# Altium footprint library My.PcbLib: 39 footprints (part 3 of 3)
Each footprint in its own frame and in the unit in brackets; x right, y up, seen from the top. Pads: shape width x height; smd on the part's side, far side on the other; paste and mask are expansions set on the pad; w line width, h text height; cw(c..) or ccw(c..) is an arc to the next point about the centre after c.
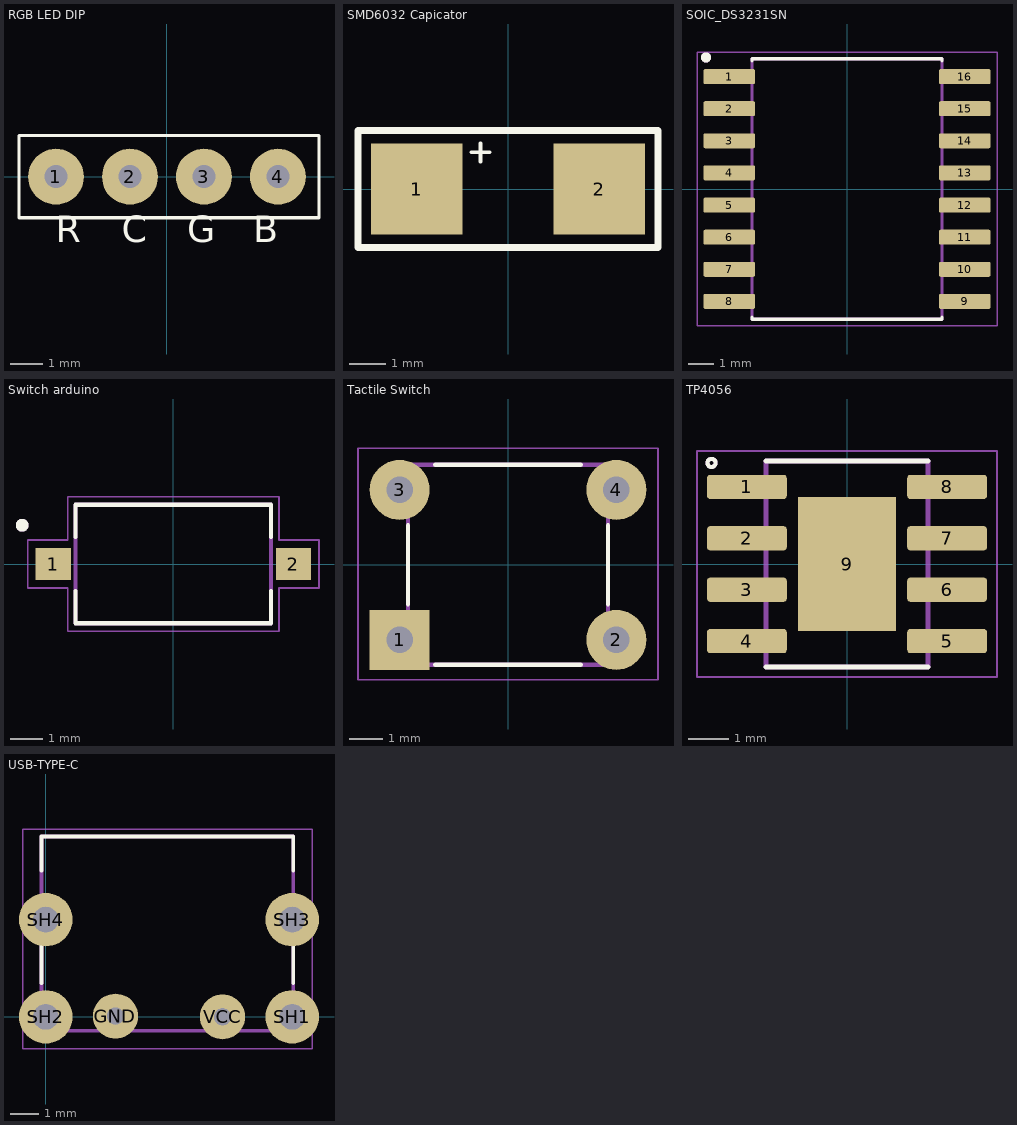
[diagram p2: the footprints below, top view; thin cyan lines are the x and y axes]

## RGB LED DIP [mm]
pads (4):
  round 1.7 hole 0.7: 1(-3.375,0) 2(-1.125,0) 3(1.125,0) 4(3.375,0)
Top Overlay:
  lines w0.1: -4.5,-1.25 -4.5,1.25 4.625,1.25 4.625,-1.25 -4.5,-1.25
  text "B" at 2.625,-2 h0.81
  text "G" at 0.625,-2 h0.81
  text "C" at -1.375,-2 h0.81
  text "R" at -3.375,-2 h0.81

## SMD6032 Capicator [mm]
pads (2):
  rect 2.5x2.5 smd: 1(-2.5,0) 2(2.5,0)
Top Overlay:
  lines w0.1: -1,1 -0.5,1 ; -0.75,0.75 -0.75,1.25
  lines w0.2: -4.1,-1.6 -4.1,1.6 4.1,1.6 4.1,-1.6 -4.1,-1.6

## SOIC_DS3231SN [mm]
height 2.65
pads (16):
  rrect25% 2.05x0.59 smd: 1(-4.655,4.445) 2(-4.655,3.175) 3(-4.655,1.905) 4(-4.655,0.635) 5(-4.655,-0.635) 6(-4.655,-1.905) 7(-4.655,-3.175) 8(-4.655,-4.445) 9(4.655,-4.445) 10(4.655,-3.175) 11(4.655,-1.905) 12(4.655,-0.635) 13(4.655,0.635) 14(4.655,1.905) 15(4.655,3.175) 16(4.655,4.445)
Top Overlay:
  circle w0.2: c-5.575,5.2 r0.1
  lines w0.127: -3.75,-5.06 -3.75,-5.15 3.75,-5.15 3.75,-5.06 ; -3.75,5.06 -3.75,5.15 3.75,5.15 3.75,5.06
Mechanical 13:
  circle w0.2: c-5.575,5.2 r0.1
  lines w0.127: -3.75,-5.15 3.75,-5.15 3.75,5.15 -3.75,5.15 -3.75,-5.15
Top Courtyard (Mech15):
  lines w0.05: -5.93,-5.4 -5.93,5.4 5.93,5.4 5.93,-5.4 -5.93,-5.4
3D body "step_temp.STEP": height 2.65, standoff 0, extent -5.162,-5.15 5.162,5.15

## Switch arduino [mm]
height 2.5
pads (2):
  rect 1.1x1 smd: 1(-3.75,0) 2(3.75,0)
Top Overlay:
  circle w0.2: c-4.72,1.21 r0.1
  lines w0.127: -3.05,-0.85 -3.05,-1.85 3.05,-1.85 3.05,-0.85 ; -3.05,0.85 -3.05,1.85 3.05,1.85 3.05,0.85
Mechanical 13:
  circle w0.2: c-4.72,1.21 r0.1
  lines w0.127: -3.05,-1.85 3.05,-1.85 3.05,1.85 -3.05,1.85 -3.05,-1.85
Top Courtyard (Mech15):
  lines w0.05: -4.55,-0.75 -4.55,0.75 -3.3,0.75 -3.3,2.1 3.3,2.1 3.3,0.75 4.55,0.75 4.55,-0.75 3.3,-0.75 3.3,-2.1 -3.3,-2.1 -3.3,-0.75 -4.55,-0.75
3D body "step_temp.STEP": height 2.5, standoff -0.05, extent -4.05,-1.85 4.05,1.85

## Tactile Switch [mm]
height 13
pads (4):
  rect 1.8x1.8 hole 0.8: 1(-3.25,-2.25)
  round 1.8 hole 0.8: 2(3.25,-2.25) 3(-3.25,2.25) 4(3.25,2.25)
Top Overlay:
  lines w0.127: -3,-1.182 -3,1.183 ; -2.183,-3 2.183,-3 ; -2.183,3 2.183,3 ; 3,-1.182 3,1.183
Mechanical 13:
  lines w0.127: -3,-3 -3,3 3,3 3,-3 -3,-3
Top Courtyard (Mech15):
  lines w0.05: -4.5,-3.454 -2.127,-3.454 2.127,-3.454 4.5,-3.454 4.5,3.5 -4.5,3.5 -4.5,-3.454
3D body "step_temp.STEP": height 5, standoff -3.55, extent -3.947,-3 3.947,3

## TP4056 [mm]
height 1.75
pads (9):
  rrect25% 1.97x0.6 smd: 1(-2.475,1.905) 2(-2.475,0.635) 3(-2.475,-0.635) 4(-2.475,-1.905) 5(2.475,-1.905) 6(2.475,-0.635) 7(2.475,0.635) 8(2.475,1.905)
  rect 2.413x3.302 smd paste-3: 9(0,0)
Top Overlay:
  circle w0.1: c-3.35,2.5 r0.1
  lines w0.127: -2,-2.55 2,-2.55 ; -2,2.55 2,2.55
Top Paste:
  region: 0.645,-0.82 -0.645,-0.82 -0.645,0.82 0.645,0.82
Mechanical 13:
  circle w0.1: c-3.35,2.5 r0.1
  lines w0.127: -2,-2.55 2,-2.55 2,2.55 -2,2.55 -2,-2.55
Top Courtyard (Mech15):
  lines w0.05: -3.71,-2.8 3.71,-2.8 3.71,2.8 -3.71,2.8 -3.71,-2.8
3D body "step_temp.STEP": height 1.75, standoff 0, extent -3,-2.45 3,2.45

## USB-TYPE-C [mm]
height 3.16
pads (6):
  round 1.6 hole 0.6: GND(2.475,0.025) VCC(6.275,0)
  round 1.9 hole 0.9: SH1(8.75,0) SH2(0,0) SH3(8.75,3.45) SH4(0,3.45)
Top Overlay:
  lines w0.127: -0.15,1.195 -0.15,2.605 ; -0.15,5.195 -0.15,6.4 8.79,6.4 8.79,5.195 ; 8.79,1.195 8.79,2.605
Mechanical 13:
  lines w0.127: -0.15,-0.5 -0.15,6.4 8.79,6.4 8.79,-0.5 -0.15,-0.5
Top Courtyard (Mech15):
  lines w0.05: -0.825,-1.125 -0.825,6.65 9.465,6.65 9.465,-1.125 -0.825,-1.125
3D body "step_temp.STEP": height 3.28, standoff -1.88, extent -0.15,-0.55 8.79,6.35